# EAGLE library part TIWI-BLE (library vikc-rf)
Integrated Transceiver Modules for WLAN 802.11 b/g/n, Bluetooth, Bluetooth Low Energy (BLE)
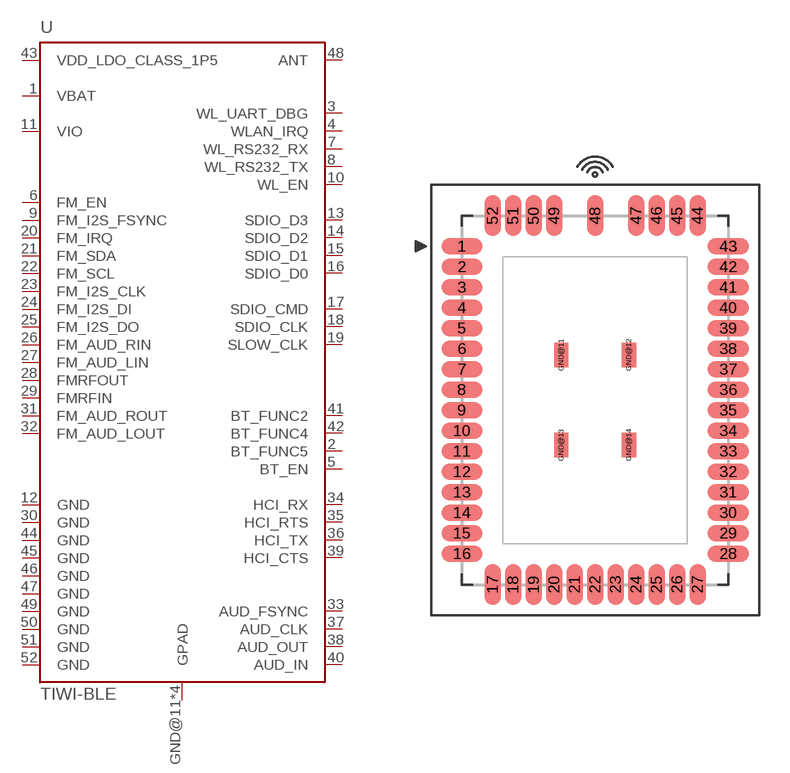
[diagram p0: symbol with the pads of TIWI-BLE; footprint TIWI-BLE]

Designator prefix U

## TIWI-BLE  [TIWI-BLE]
1  VBAT  pwr
2  BT_FUNC5  out
3  WL_UART_DBG
4  WLAN_IRQ
5  BT_EN  in
6  FM_EN  in
7  WL_RS232_RX  in
8  WL_RS232_TX  out
9  FM_I2S_FSYNC  nc
10  WL_EN  in
11  VIO  pwr
12  GND  pwr
13  SDIO_D3
14  SDIO_D2
15  SDIO_D1
16  SDIO_D0
17  SDIO_CMD
18  SDIO_CLK  in
19  SLOW_CLK  in
20  FM_IRQ  nc
21  FM_SDA  nc
22  FM_SCL  nc
23  FM_I2S_CLK  nc
24  FM_I2S_DI  in
25  FM_I2S_DO  nc
26  FM_AUD_RIN  pas
27  FM_AUD_LIN  pas
28  FMRFOUT  nc
29  FMRFIN  pas
30  GND  pwr
31  FM_AUD_ROUT  nc
32  FM_AUD_LOUT  nc
33  AUD_FSYNC
34  HCI_RX  in
35  HCI_RTS  out
36  HCI_TX
37  AUD_CLK  out
38  AUD_OUT  out
39  HCI_CTS  in
40  AUD_IN  in
41  BT_FUNC2  in
42  BT_FUNC4  out
43  VDD_LDO_CLASS_1P5  nc
44  GND  pwr
45  GND  pwr
46  GND  pwr
47  GND  pwr
48  ANT
49  GND  pwr
50  GND  pwr
51  GND  pwr
52  GND  pwr
GND@11  GPAD  pwr
GND@12  GPAD  pwr
GND@13  GPAD  pwr
GND@14  GPAD  pwr

## Footprint TIWI-BLE (pad centres in mm)
smd 2 x 0.8: 1 -6.5,7.5; 2 -6.5,6.5; 3 -6.5,5.5; 4 -6.5,4.5; 5 -6.5,3.5; 6 -6.5,2.5; 7 -6.5,1.5; 8 -6.5,0.5; 9 -6.5,-0.5; 10 -6.5,-1.5; 11 -6.5,-2.5; 12 -6.5,-3.5; 13 -6.5,-4.5; 14 -6.5,-5.5; 15 -6.5,-6.5; 16 -6.5,-7.5; 28 6.5,-7.5; 29 6.5,-6.5; 30 6.5,-5.5; 31 6.5,-4.5; 32 6.5,-3.5; 33 6.5,-2.5; 34 6.5,-1.5; 35 6.5,-0.5; 36 6.5,0.5; 37 6.5,1.5; 38 6.5,2.5; 39 6.5,3.5; 40 6.5,4.5; 41 6.5,5.5; 42 6.5,6.5; 43 6.5,7.5
smd 0.8 x 2: 17 -5,-9; 18 -4,-9; 19 -3,-9; 20 -2,-9; 21 -1,-9; 22 0,-9; 23 1,-9; 24 2,-9; 25 3,-9; 26 4,-9; 27 5,-9; 44 5,9; 45 4,9; 46 3,9; 47 2,9; 48 0,9; 49 -2,9; 50 -3,9; 51 -4,9; 52 -5,9
smd 0.7 x 1.2: GND@11 -1.65,2.2; GND@12 1.65,2.2; GND@13 -1.65,-2.2; GND@14 1.65,-2.2